# EAGLE library part CON-USB-292303-1 (library 31813 Neutron Readout PCB)
AMP connector
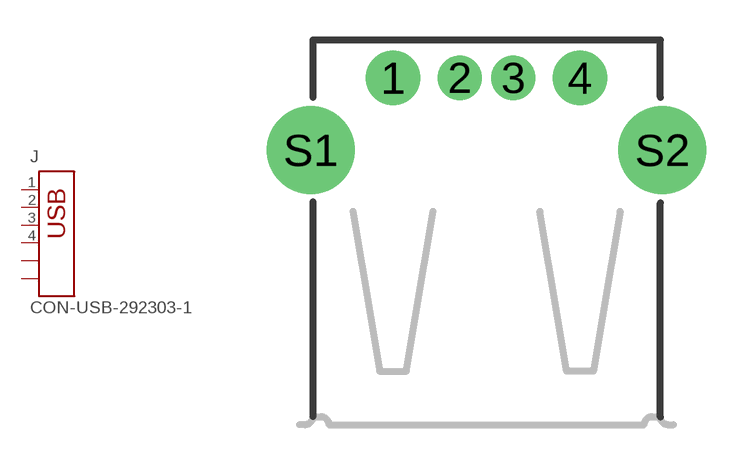
[diagram p5: symbol with the pads of USB; footprint USB]

Designator prefix J

## CON-USB-292303-1  [USB]
1  1  pas
2  2  pas
3  3  pas
4  4  pas
S1  S1  pas
S2  S2  pas

## Footprint USB (pad centres in mm)
USB connector
drill 1 pad 2.032: 1 -3.5,12.99; 4 3.5,12.99
drill 1 pad 1.651: 2 -1,12.99; 3 1,12.99
drill 2.286 pad 3.302: S1 -6.579,10.287; S2 6.579,10.287